# Altium footprint library SnapEDApcb.PcbLib: 1 footprints
Each footprint in its own frame and in the unit in brackets; x right, y up, seen from the top. Pads: shape width x height; smd on the part's side, far side on the other; paste and mask are expansions set on the pad; w line width, h text height; cw(c..) or ccw(c..) is an arc to the next point about the centre after c.
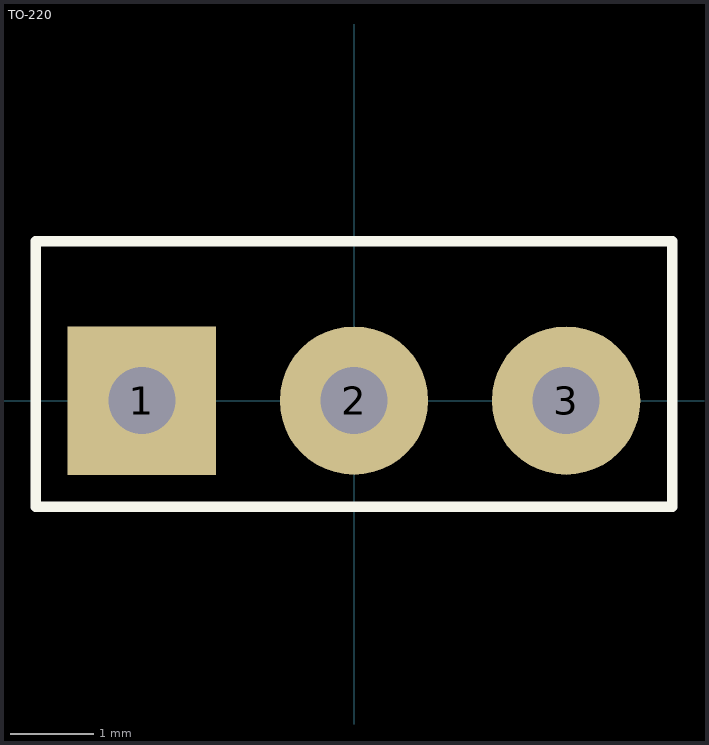
[diagram p0: the footprint, top view; thin cyan lines are the x and y axes]

## TO-220 [mil]
pads (3):
  rect 70x70 hole 31.5: 1(-100,0)
  round 70 hole 31.5: 2(0,0) 3(100,0)
Top Overlay:
  lines w5: -150,-50 150,-50 150,75 -150,75 -150,-50